# Altium footprint library Basic.PcbLib: 47 footprints (part 1 of 3)
Each footprint in its own frame and in the unit in brackets; x right, y up, seen from the top. Pads: shape width x height; smd on the part's side, far side on the other; paste and mask are expansions set on the pad; w line width, h text height; cw(c..) or ccw(c..) is an arc to the next point about the centre after c.
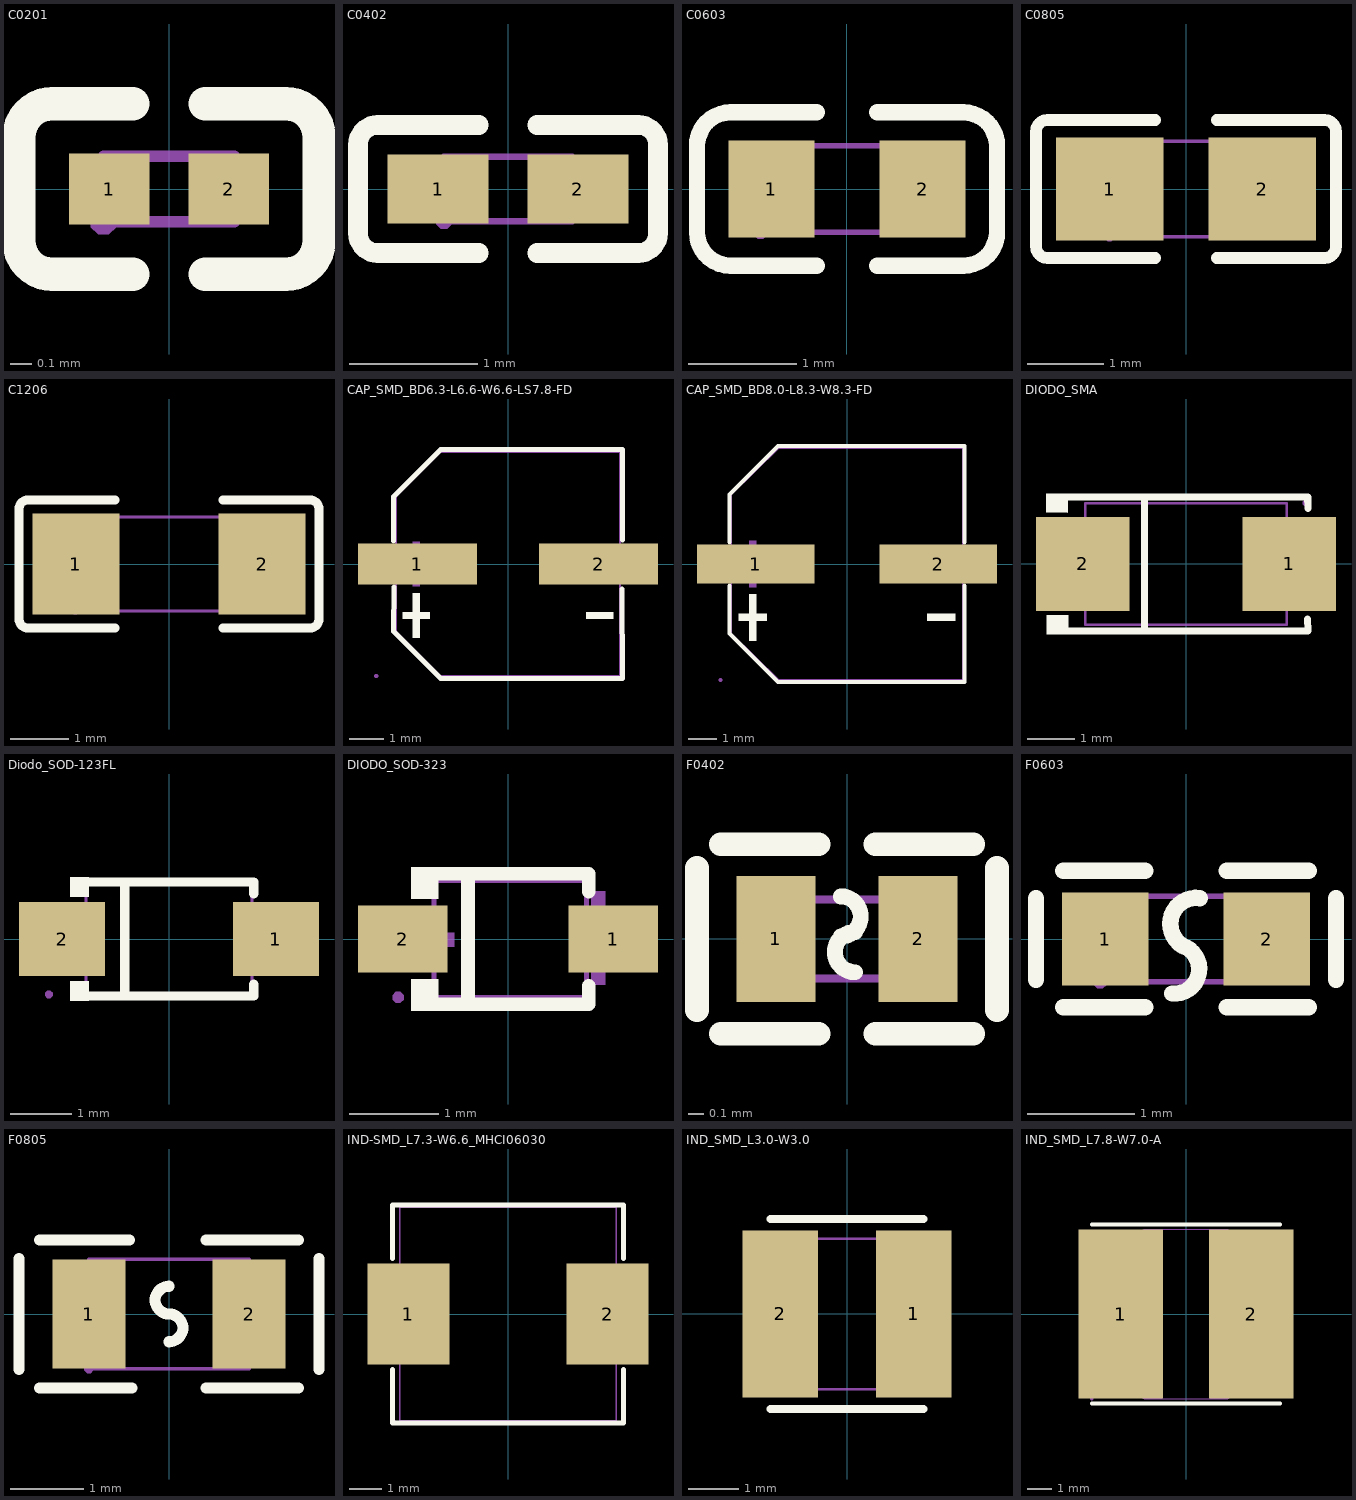
[diagram p0: the footprints below, top view; thin cyan lines are the x and y axes]

## C0201 [mm] "贴片电容_C0201"
pads (2):
  rect 0.368x0.324 smd paste-100 mask+0.051: 1(-0.274,0) 2(0.274,0)
Top Overlay:
  lines w0.152: -0.166,-0.391 -0.535,-0.391 cw(c-0.535,-0.238) -0.687,-0.238 -0.687,0.238 cw(c-0.535,0.238) -0.535,0.391 -0.166,0.391 ; 0.166,-0.391 0.535,-0.391 ccw(c0.535,-0.238) 0.687,-0.238 0.687,0.238 ccw(c0.535,0.238) 0.535,0.391 0.166,0.391
Top Paste:
  region: 0.081,-0.138 0.081,0.138 0.105,0.162 0.434,0.162 0.458,0.138 0.458,-0.138 0.434,-0.162 0.105,-0.162
  region: -0.081,-0.138 -0.081,0.138 -0.105,0.162 -0.434,0.162 -0.458,0.138 -0.458,-0.138 -0.434,-0.162 -0.105,-0.162
Mechanical 15:
  region: -0.24,-0.15 -0.241,-0.126 -0.276,-0.092 -0.324,-0.092 -0.359,-0.126 -0.36,-0.15 -0.359,-0.174 -0.324,-0.208 -0.276,-0.208 -0.241,-0.174
  region: -0.3,-0.15 -0.3,0.15 -0.15,0.15 -0.15,-0.15
  region: 0.3,-0.15 0.3,0.15 0.15,0.15 0.15,-0.15
  lines w0.051: -0.3,-0.15 -0.3,0.15 0.3,0.15 0.3,-0.15 -0.3,-0.15
3D body "C0201.step": height 0.28, standoff -0.02, extent -0.3,-0.15 0.3,0.15

## C0402 [mm] "贴片电容_C0402"
pads (2):
  rect 0.79x0.54 smd paste-100 mask+0.051: 1(-0.545,0) 2(0.545,0)
Top Overlay:
  lines w0.152: -0.226,-0.499 -1.016,-0.499 cw(c-1.016,-0.346) -1.169,-0.346 -1.169,0.346 cw(c-1.016,0.346) -1.016,0.499 -0.226,0.499 ; 0.226,-0.499 1.016,-0.499 ccw(c1.016,-0.346) 1.169,-0.346 1.169,0.346 ccw(c1.016,0.346) 1.016,0.499 0.226,0.499
Top Paste:
  region: 0.78,0.225 0.78,-0.225 0.73,-0.275 0.25,-0.275 0.18,-0.225 0.18,0.225 0.25,0.275 0.73,0.275
  region: -0.18,0.225 -0.18,-0.225 -0.25,-0.275 -0.73,-0.275 -0.78,-0.225 -0.78,0.225 -0.73,0.275 -0.25,0.275
Mechanical 15:
  region: 0.5,-0.25 0.5,0.25 0.25,0.25 0.25,-0.25
  region: -0.5,-0.25 -0.5,0.25 -0.25,0.25 -0.25,-0.25
  region: -0.44,-0.25 -0.44,-0.225 -0.475,-0.19 -0.525,-0.19 -0.56,-0.225 -0.56,-0.25 -0.56,-0.275 -0.525,-0.31 -0.475,-0.31 -0.44,-0.275
  lines w0.051: -0.5,-0.25 0.5,-0.25 0.5,0.25 -0.5,0.25 -0.5,-0.25
3D body "C0402.step": height 0.48, standoff -0.02, extent -0.5,-0.25 0.5,0.25

## C0603 [mm] "贴片电容_C0603"
pads (2):
  rect 0.8x0.9 smd: 1(-0.7,0) 2(0.7,0)
Top Overlay:
  lines w0.152: -1.39,-0.4 ccw(c-1.08,-0.4) -1.08,-0.71 ; -1.39,-0.374 -1.39,0.426 ; -1.39,0.4 cw(c-1.08,0.4) -1.08,0.71 ; -1.08,-0.71 -0.28,-0.71 ; -1.08,0.71 -0.28,0.71 ; 0.28,-0.71 1.08,-0.71 ccw(c1.08,-0.4) 1.39,-0.4 1.39,0.4 ccw(c1.08,0.4) 1.08,0.71 0.28,0.71
Mechanical 15:
  region: -0.74,-0.4 -0.74,-0.375 -0.775,-0.34 -0.825,-0.34 -0.86,-0.375 -0.86,-0.4 -0.86,-0.425 -0.825,-0.46 -0.775,-0.46 -0.74,-0.425
  region: -0.8,-0.4 -0.8,0.4 -0.5,0.4 -0.5,-0.4
  region: 0.8,-0.4 0.8,0.4 0.5,0.4 0.5,-0.4
  lines w0.051: -0.8,-0.4 -0.8,0.4 0.8,0.4 0.8,-0.4 -0.8,-0.4
3D body "C0603.step": height 0.81, standoff 0.01, extent -0.8,-0.4 0.8,0.4

## C0805 [mm] "贴片电容_C0805"
pads (2):
  rect 1.41x1.35 smd paste-100 mask+0.051: 1(-1,0) 2(1,0)
Top Overlay:
  lines w0.152: -0.401,-0.904 -1.811,-0.904 cw(c-1.811,-0.751) -1.964,-0.751 -1.964,0.751 cw(c-1.811,0.751) -1.811,0.904 -0.401,0.904 ; 0.401,-0.904 1.811,-0.904 ccw(c1.811,-0.751) 1.964,-0.751 1.964,0.751 ccw(c1.811,0.751) 1.811,0.904 0.401,0.904
Top Paste:
  region: 1.705,0.64 1.705,-0.64 1.655,-0.69 0.505,-0.69 0.455,-0.64 0.45,-0.23 0.9,-0.23 0.9,0.22 0.46,0.22 0.455,0.64 0.505,0.69 1.655,0.69
  region: -1.705,-0.64 -1.705,0.64 -1.655,0.69 -0.505,0.69 -0.455,0.64 -0.45,0.23 -0.9,0.23 -0.9,-0.22 -0.46,-0.22 -0.455,-0.64 -0.505,-0.69 -1.655,-0.69
Mechanical 15:
  region: 1,0.625 1,-0.625 0.5,-0.625 0.5,0.625
  region: -1,-0.625 -1,0.625 -0.5,0.625 -0.5,-0.625
  region: -0.94,-0.625 -0.941,-0.601 -0.976,-0.568 -1.024,-0.568 -1.059,-0.601 -1.06,-0.625 -1.059,-0.649 -1.024,-0.683 -0.976,-0.683 -0.941,-0.649
  lines w0.051: -1,-0.625 1,-0.625 1,0.625 -1,0.625 -1,-0.625
3D body "C0805.step": height 1.29, standoff -0.02, extent -1,-0.65 1,0.65

## C1206 [mm] "贴片电容_C1206"
pads (2):
  rect 1.485x1.728 smd paste-100 mask+0.051: 1(-1.593,0) 2(1.593,0)
Top Overlay:
  lines w0.152: -0.926,-1.093 -2.411,-1.093 cw(c-2.411,-0.94) -2.564,-0.94 -2.564,0.94 cw(c-2.411,0.94) -2.411,1.093 -0.926,1.093 ; 0.926,-1.093 2.411,-1.093 ccw(c2.411,-0.94) 2.564,-0.94 2.564,0.94 ccw(c2.411,0.94) 2.411,1.093 0.926,1.093
Top Paste:
  region: 0.85,-0.764 0.85,-0.394 0.95,-0.294 1.255,-0.294 1.355,-0.194 1.355,0.194 1.255,0.294 0.95,0.294 0.85,0.394 0.85,0.764 0.95,0.864 2.235,0.864 2.335,0.764 2.335,-0.764 2.235,-0.864 0.95,-0.864
  region: -0.85,-0.764 -0.85,-0.394 -0.95,-0.294 -1.255,-0.294 -1.355,-0.194 -1.355,0.194 -1.255,0.294 -0.95,0.294 -0.85,0.394 -0.85,0.764 -0.95,0.864 -2.235,0.864 -2.335,0.764 -2.335,-0.764 -2.235,-0.864 -0.95,-0.864
Mechanical 15:
  region: -1.54,-0.8 -1.541,-0.776 -1.576,-0.742 -1.624,-0.742 -1.659,-0.776 -1.66,-0.8 -1.659,-0.824 -1.624,-0.858 -1.576,-0.858 -1.541,-0.824
  region: -1.6,-0.8 -1.6,0.8 -1.1,0.8 -1.1,-0.8
  region: 1.6,-0.8 1.6,0.8 1.1,0.8 1.1,-0.8
  lines w0.051: -1.6,-0.8 -1.6,0.8 1.6,0.8 1.6,-0.8 -1.6,-0.8
3D body "C1206.step": height 1.29, standoff -0.02, extent -1.6,-0.8 1.6,0.8

## CAP_SMD_BD6.3-L6.6-W6.6-LS7.8-FD [mm]
pads (2):
  rect 3.5x1.2 smd: 1(-2.67,0) 2(2.67,0)
Top Overlay:
  region: -2.805,-0.858 -2.805,-2.178 -2.607,-2.178 -2.607,-0.858
  region: -3.102,-1.419 -3.102,-1.617 -2.31,-1.617 -2.31,-1.419
  region: 3.102,-1.419 3.102,-1.617 2.31,-1.617 2.31,-1.419
  lines w0.152: -3.376,0.686 -3.376,1.98 -1.98,3.376 3.376,3.376 3.369,0.708 ; -3.362,-0.686 -3.376,-1.981 -1.981,-3.376 3.376,-3.376 3.356,-0.739
Mechanical 6:
  region: -2.805,0.66 -2.805,-0.66 -2.607,-0.66 -2.607,0.66
  region: -3.102,0.099 -3.102,-0.099 -2.31,-0.099 -2.31,0.099
  region: 3.102,0.099 3.102,-0.099 2.31,-0.099 2.31,0.099
Mechanical 15:
  region: -3.824,-3.3 -3.825,-3.276 -3.86,-3.242 -3.908,-3.242 -3.943,-3.276 -3.944,-3.3 -3.943,-3.324 -3.908,-3.358 -3.86,-3.358 -3.825,-3.324
  region: -3.884,0.325 -1.284,0.325 -1.284,-0.325 -3.884,-0.325
  region: 1.317,0.325 3.917,0.325 3.917,-0.325 1.317,-0.325
  lines w0.051: -3.3,-1.98 -1.98,-3.3 3.3,-3.3 3.3,3.3 -1.98,3.3 -3.3,1.98 -3.3,-1.98
3D body "CAP_SMD_BD6.3-L6.6-W6.6-LS7.8-FD.step": height 6.1, standoff -0.02, extent -3.6,-3.3 3.6,3.3

## CAP_SMD_BD8.0-L8.3-W8.3-FD [mm]
pads (2):
  rect 4.2x1.4 smd: 1(-3.267,0) 2(3.267,0)
Top Overlay:
  region: 3.876,-1.785 3.876,-2.033 2.88,-2.033 2.88,-1.785
  region: -3.876,-1.785 -3.876,-2.033 -2.88,-2.033 -2.88,-1.785
  region: -3.503,-1.079 -3.503,-2.739 -3.254,-2.739 -3.254,-1.079
  lines w0.152: -4.201,-0.782 -4.201,-2.49 -2.465,-4.226 4.201,-4.226 4.201,-0.782 ; -4.201,0.782 -4.201,2.49 -2.465,4.226 4.201,4.226 4.201,0.782
Mechanical 6:
  region: 3.876,0.125 3.876,-0.125 2.88,-0.125 2.88,0.125
  region: -3.876,0.125 -3.876,-0.125 -2.88,-0.125 -2.88,0.125
  region: -3.503,0.83 -3.503,-0.83 -3.254,-0.83 -3.254,0.83
Mechanical 15:
  region: -4.465,-4.15 -4.466,-4.126 -4.5,-4.093 -4.549,-4.093 -4.583,-4.126 -4.584,-4.15 -4.583,-4.174 -4.549,-4.208 -4.5,-4.208 -4.466,-4.174
  region: 1.574,0.45 4.524,0.45 4.524,-0.45 1.574,-0.45
  region: -4.524,0.45 -1.574,0.45 -1.574,-0.45 -4.524,-0.45
  lines w0.051: -4.15,-2.49 -2.465,-4.15 4.15,-4.15 4.15,4.15 -2.465,4.15 -4.15,2.49 -4.15,-2.49
3D body "CAP_SMD_BD8.0-L8.3-W8.3-FD.step": height 10, standoff -0.05, extent -5,-4.151 5,4.15

## DIODO_SMA [mm]
pads (2):
  rect 2x2 smd: 1(2.2,0) 2(-2.2,0)
Top Overlay:
  region: -2.512,-1.096 -2.513,-1.503 -2.973,-1.498 -2.969,-1.096
  region: -2.52,1.502 -2.521,1.096 -2.981,1.1 -2.977,1.502
  lines w0.152: -2.596,-1.426 2.596,-1.426 ; -2.596,1.426 2.596,1.426 2.603,1.187 ; -0.884,-1.426 -0.884,1.426 ; 2.593,-1.176 2.6,-1.415
Mechanical 6:
  region: 2.014,-0.675 2.014,0.675 1.811,0.675 1.811,-0.675
  region: 2.318,-0.101 2.318,0.101 1.508,0.101 1.508,-0.101
  region: -2.317,-0.101 -2.317,0.101 -1.507,0.101 -1.507,-0.101
Mechanical 15:
  region: 2.55,0.7 2.55,-0.7 1.35,-0.7 1.35,0.7
  region: -1.35,0.7 -1.35,-0.7 -2.55,-0.7 -2.55,0.7
  region: 2.61,1.3 2.61,1.324 2.575,1.359 2.526,1.359 2.491,1.325 2.49,1.3 2.491,1.276 2.526,1.241 2.574,1.241 2.609,1.275
  lines w0.051: -2.15,-1.3 2.15,-1.3 2.15,1.3 -2.15,1.3 -2.15,-1.3
3D body "Diodo_SMA.step": height 2.07, standoff 0.02, extent -2.475,-1.25 2.475,1.25

## Diodo_SOD-123FL [mm]
pads (2):
  rect 1.4x1.2 smd: 1(1.735,0) 2(-1.735,0)
Top Overlay:
  region: -1.3,1.002 -1.3,0.682 -1.605,0.682 -1.605,1.002
  region: -1.3,-1.002 -1.3,-0.682 -1.605,-0.682 -1.605,-1.002
  lines w0.152: -1.376,-0.926 1.376,-0.926 1.376,-0.733 ; -1.376,0.926 1.376,0.926 1.376,0.733 ; -0.717,-0.876 -0.717,0.876
Mechanical 6:
  region: -2.032,0.127 -2.032,-0.065 -1.264,-0.065 -1.264,0.127
  region: 2.035,0.096 2.035,-0.096 1.267,-0.096 1.267,0.096
  region: 1.747,-0.384 1.555,-0.384 1.555,0.384 1.747,0.384
Mechanical 15:
  region: -1.89,-0.9 -1.891,-0.876 -1.926,-0.842 -1.974,-0.842 -2.009,-0.875 -2.01,-0.9 -2.009,-0.924 -1.974,-0.958 -1.926,-0.958 -1.891,-0.924
  region: 1.95,-0.475 1.15,-0.475 1.15,0.475 1.95,0.475
  region: -1.95,0.475 -1.15,0.475 -1.15,-0.475 -1.95,-0.475
  lines w0.051: -1.35,-0.9 -1.35,0.9 1.35,0.9 1.35,-0.9 -1.35,-0.9
3D body "Diodo_SOD-123FL.step": height 1.06, standoff 0, extent -1.85,-0.9 1.85,0.9

## DIODO_SOD-323 [mm]
pads (2):
  rect 1x0.75 smd: 1(1.173,0) 2(-1.173,0)
Top Overlay:
  region: -0.775,-0.802 -0.775,-0.45 -1.08,-0.45 -1.08,-0.802
  region: -0.775,0.802 -0.775,0.45 -1.08,0.45 -1.08,0.802
  lines w0.152: -0.851,-0.726 0.901,-0.726 0.901,-0.52 ; -0.851,0.726 0.901,0.726 0.901,0.53 ; -0.447,-0.726 -0.447,0.726
Mechanical 6:
  region: 1.083,0.53 1.083,-0.51 0.927,-0.51 0.927,0.53
  region: 1.315,0.09 1.315,-0.066 0.691,-0.066 0.691,0.09
  region: -1.225,0.07 -1.225,-0.086 -0.601,-0.086 -0.601,0.07
Mechanical 15:
  region: -0.815,0.16 -0.815,-0.16 -0.935,-0.16 -0.935,0.16
  region: -0.925,0.16 -0.925,-0.16 -1.225,-0.16 -1.225,0.16
  region: 0.985,0.16 0.985,-0.16 0.865,-0.16 0.865,0.16
  region: 1.275,0.16 1.275,-0.16 0.975,-0.16 0.975,0.16
  region: -1.165,-0.65 -1.165,-0.625 -1.2,-0.59 -1.25,-0.59 -1.285,-0.625 -1.285,-0.65 -1.285,-0.675 -1.25,-0.71 -1.2,-0.71 -1.165,-0.675
  lines w0.051: -0.825,-0.65 -0.825,0.65 0.875,0.65 0.875,-0.65 -0.825,-0.65
3D body "Diodo_SOD-323.step": height 0.93, standoff -0.02, extent -1.25,-0.625 1.25,0.625

## F0402 [mm]
pads (2):
  rect 0.5x0.8 smd: 1(-0.45,0) 2(0.45,0)
Top Overlay:
  lines w0.1: -0.04,0.016 ccw(c-0.04,0.143) -0.04,0.27 ; 0.05,-0.21 cw(c0.05,-0.083) 0.05,0.044
  lines w0.15: -0.95,-0.45 -0.95,-0.4 -0.95,0.4 -0.95,0.45 ; -0.8,-0.6 -0.18,-0.6 ; -0.8,0.6 -0.18,0.6 ; 0.18,-0.6 0.8,-0.6 ; 0.18,0.6 0.8,0.6 ; 0.95,-0.45 0.95,-0.4 0.95,0.4 0.95,0.45
Mechanical 6:
  lines w0.051: -0.5,-0.25 -0.5,0.25 0.5,0.25 0.5,-0.25 -0.5,-0.25
Mechanical 8:
  region: -0.44,-0.25 -0.44,-0.275 -0.475,-0.31 -0.525,-0.31 -0.56,-0.275 -0.56,-0.25 -0.56,-0.225 -0.525,-0.19 -0.475,-0.19 -0.44,-0.225 -0.44,-0.25
Mechanical 9:
  region: -0.25,-0.25 -0.5,-0.25 -0.5,0.25 -0.25,0.25
  region: 0.25,0.25 0.5,0.25 0.5,-0.25 0.25,-0.25
3D body "F0402.step": height 0.51, standoff 0, extent -0.5,-0.255 0.5,0.255

## F0603 [mm]
pads (2):
  rect 0.806x0.864 smd paste-100 mask+0.051: 1(-0.753,0) 2(0.753,0)
Top Overlay:
  lines w0.152: -1.397,-0.381 -1.397,0.381 ; -1.143,-0.635 -0.381,-0.635 ; -1.143,0.635 -0.381,0.635 ; -0.127,-0.508 ccw(c-0.107,-0.28) -0.031,-0.063 ; -0.032,-0.064 cw(c0.096,0.142) 0.127,0.381 ; 0.381,-0.635 1.143,-0.635 ; 0.381,0.635 1.143,0.635 ; 1.397,-0.381 1.397,0.381
Top Paste:
  region: -0.315,-0.138 -0.315,0.138 -0.589,0.432 -1.092,0.432 -1.156,0.368 -1.156,-0.368 -1.092,-0.432 -0.589,-0.432
  region: 0.315,-0.138 0.315,0.138 0.589,0.432 1.092,0.432 1.156,0.368 1.156,-0.368 1.092,-0.432 0.589,-0.432
Mechanical 6:
  lines w0.051: -0.8,-0.4 0.8,-0.4 0.8,0.4 -0.8,0.4 -0.8,-0.4
Mechanical 8:
  region: -0.74,-0.4 -0.74,-0.425 -0.775,-0.46 -0.825,-0.46 -0.86,-0.425 -0.86,-0.4 -0.86,-0.375 -0.825,-0.34 -0.775,-0.34 -0.74,-0.375 -0.74,-0.4
Mechanical 9:
  region: 0.8,-0.4 0.8,0.4 0.5,0.4 0.5,-0.4
  region: -0.8,-0.4 -0.8,0.4 -0.5,0.4 -0.5,-0.4
3D body "F0603.step": height 0.7, standoff 0, extent -0.85,-0.45 0.85,0.45

## F0805 [mm]
pads (2):
  rect 1x1.5 smd paste-100 mask+0.051: 1(-1.1,0) 2(1.1,0)
Top Overlay:
  lines w0.152: -2.059,-0.762 -2.059,0.762 ; -1.778,-1.016 -0.508,-1.016 ; -1.778,1.016 -0.545,1.016 ; 0,-0.381 ccw(c0,-0.191) 0,0 cw(c0,0.191) 0,0.381 ; 0.508,-1.016 1.778,-1.016 ; 0.508,1.016 1.778,1.016 ; 2.059,-0.762 2.059,0.762
Top Paste:
  region: -1.675,-0.62 -1.675,0.66 -1.625,0.71 -0.475,0.71 -0.425,0.66 -0.42,0.25 -0.87,0.25 -0.87,-0.2 -0.43,-0.2 -0.425,-0.62 -0.475,-0.67 -1.625,-0.67
  region: 0.475,-0.62 0.475,-0.2 0.92,-0.2 0.92,0.25 0.48,0.25 0.475,0.66 0.525,0.71 1.675,0.71 1.725,0.66 1.725,-0.62 1.675,-0.67 0.525,-0.67
Mechanical 6:
  lines w0.051: -1.1,-0.75 -1.1,0.75 1.1,0.75 1.1,-0.75 -1.1,-0.75
Mechanical 8:
  region: -1.04,-0.75 -1.04,-0.775 -1.075,-0.81 -1.125,-0.81 -1.16,-0.775 -1.16,-0.75 -1.16,-0.725 -1.125,-0.69 -1.075,-0.69 -1.04,-0.725 -1.04,-0.75
Mechanical 9:
  region: -1.1,0.75 -0.9,0.75 -0.9,-0.75 -1.1,-0.75
  region: 1.1,-0.75 0.9,-0.75 0.9,0.75 1.1,0.75
3D body "F0805.step": height 0.8, standoff 0, extent -1.05,-0.7 1.05,0.7

## IND-SMD_L7.3-W6.6_MHCI06030 [mm]
pads (2):
  rect 2.524x3.12 smd paste+0.051: 1(-3.078,0) 2(3.078,0)
Top Overlay:
  lines w0.152: -3.576,-1.712 -3.576,-3.376 3.576,-3.376 3.576,-1.712 ; -3.576,1.712 -3.576,3.376 3.576,3.376 3.576,1.712
Mechanical 6:
  lines w0.051: -3.35,-3.3 -3.35,3.3 3.35,3.3 3.35,-3.3 -3.35,-3.3
Mechanical 8:
  region: -3.492,-3.307 -3.492,-3.332 -3.527,-3.367 -3.577,-3.367 -3.612,-3.332 -3.612,-3.307 -3.612,-3.282 -3.577,-3.247 -3.527,-3.247 -3.492,-3.282
Mechanical 9:
  region: 1.951,1.45 3.551,1.45 3.551,-1.45 1.951,-1.45
  region: -1.948,-1.45 -3.548,-1.45 -3.548,1.45 -1.948,1.45
3D body "IND_SMD_L7.1-W6.6.step": height 2.9, standoff 0, extent -3.55,-3.3 3.55,3.3

## IND_SMD_L3.0-W3.0 [mm]
pads (2):
  rect 1.5x3.32 smd: 1(1.328,0) 2(-1.328,0)
Top Overlay:
  lines w0.152: -1.524,-1.891 1.524,-1.891 ; -1.524,1.891 1.524,1.891
Mechanical 15:
  region: -1.44,-1.5 -1.44,-1.475 -1.475,-1.44 -1.525,-1.44 -1.56,-1.475 -1.56,-1.5 -1.56,-1.525 -1.525,-1.56 -1.475,-1.56 -1.44,-1.525
  region: -1.5,-1.45 -1.5,1.45 -0.75,1.45 -0.75,-1.45
  region: 1.5,-1.45 1.5,1.45 0.75,1.45 0.75,-1.45
  lines w0.051: -1.5,-1.5 -1.5,1.5 1.5,1.5 1.5,-1.5 -1.5,-1.5
3D body "IND_SMD_L3.0-W3.0.step": height 1.5, standoff -0.01, extent -1.51,-1.5 1.51,1.5

## IND_SMD_L7.8-W7.0-A [mm]
pads (2):
  rect 3.5x7 smd: 1(-2.7,0) 2(2.7,0)
Top Overlay:
  lines w0.152: -3.9,-3.7 3.9,-3.7 ; -3.9,3.7 3.9,3.7
Mechanical 15:
  region: 1,-3.5 1,3.5 1.72,3.5 2.1,3.29 2.49,3.015 2.795,2.725 3.11,2.35 3.415,1.87 3.73,1.185 3.865,0.305 3.885,-0.31 3.805,-0.805 3.63,-1.455 3.3,-2.08 2.84,-2.635 2.525,-3.01 1.995,-3.345 1.72,-3.5
  region: -1,3.5 -1,-3.5 -1.72,-3.5 -2.1,-3.29 -2.49,-3.015 -2.795,-2.725 -3.11,-2.35 -3.415,-1.87 -3.73,-1.185 -3.865,-0.305 -3.885,0.31 -3.805,0.805 -3.63,1.455 -3.3,2.08 -2.84,2.635 -2.525,3.01 -1.995,3.345 -1.72,3.5
  region: -3.84,-3.5 -3.841,-3.476 -3.876,-3.442 -3.924,-3.442 -3.959,-3.476 -3.96,-3.5 -3.959,-3.524 -3.924,-3.558 -3.876,-3.558 -3.841,-3.524
  lines w0.051: -3.885,0.31 -3.865,-0.305 -3.73,-1.185 -3.415,-1.87 -3.11,-2.35 -2.795,-2.725 -2.49,-3.015 -2.27,-3.17 -2.1,-3.29 -1.72,-3.5 -1.715,-3.5 -1.36,-3.5 -0.1,-3.5 0.1,-3.5 1.72,-3.5 1.995,-3.345 2.525,-3.01 2.84,-2.635 3.3,-2.08 3.63,-1.455 3.805,-0.805 3.885,-0.31 3.865,0.305 3.73,1.185 3.415,1.87 3.11,2.35 2.795,2.725 2.49,3.015 2.27,3.17 2.1,3.29 1.72,3.5 1.715,3.5 1.36,3.5 0.1,3.5 -0.1,3.5 -1.72,3.5 -1.995,3.345 -2.525,3.01 -2.84,2.635 -3.3,2.08 -3.63,1.455 -3.805,0.805 -3.885,0.31
3D body "IND_SMD_L7.8-W7.0-A.step": height 5.01, standoff 0, extent -3.89,-3.501 3.89,3.51